# Altium schematic symbol library SparkFun-IC-Power.SCHLIB: 44 symbols
Pins are listed as number, name and electrical type; pins without a type are passive.

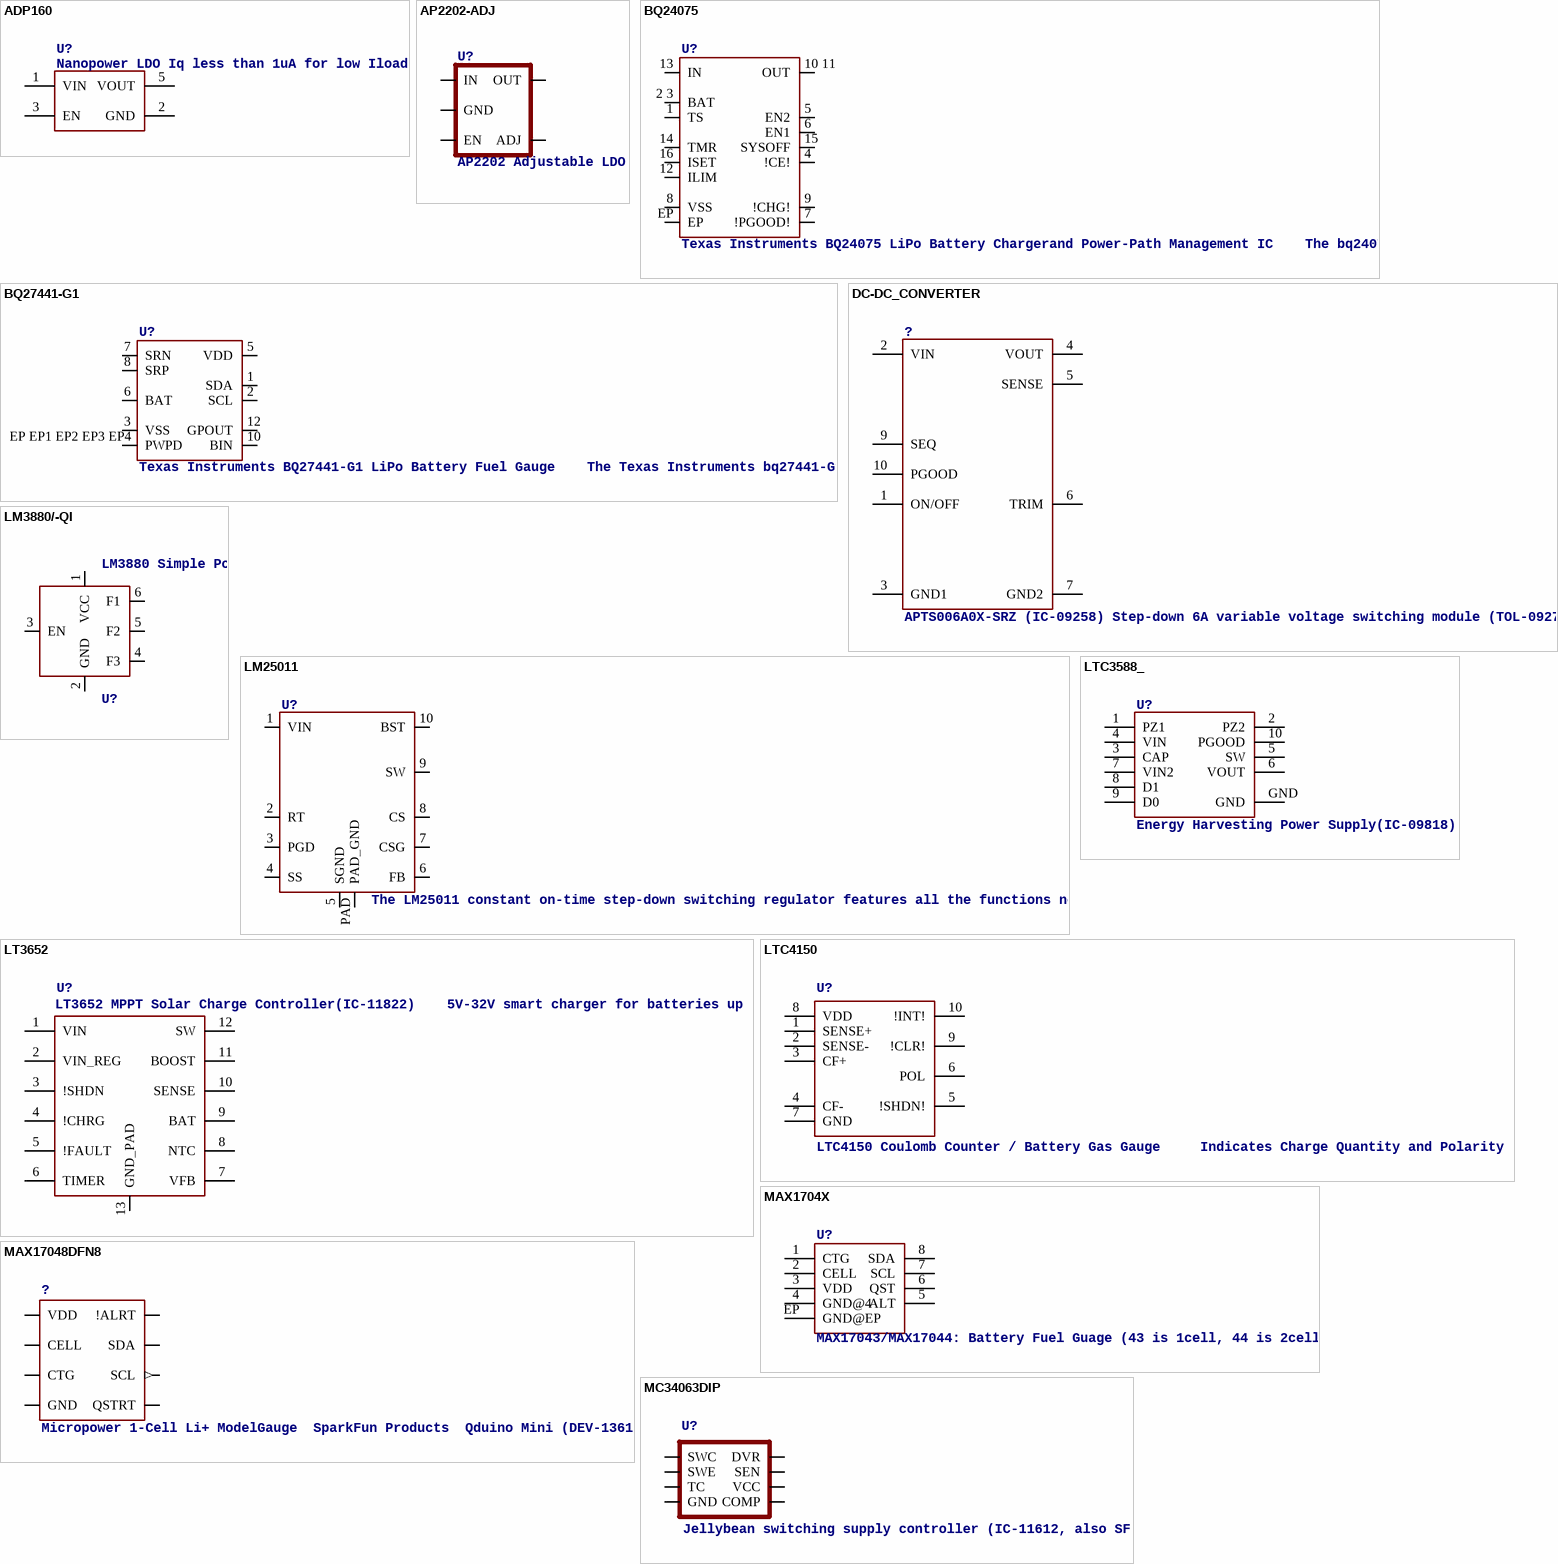
[diagram p0: symbols ADP160 to MC34063DIP]

## ADP160
designator U?, comment Nanopower LDO Iq less than 1uA for low Iload
PROD_ID: VREG-11306
footprint SOT23-5
pins: 1 VIN, 2 GND, 3 EN, 5 VOUT

## AP2202-ADJ
designator U?, comment AP2202 Adjustable LDO Diodes Inc small, low-cost LDO 150mA, 13.2V, less than 200mV dropout
PROD_ID: VREG-12189
footprint SOT23-5
pins: 1 IN, 2 GND, 3 EN, 4 ADJ, 5 OUT

## BQ24075
designator U?, comment Texas Instruments BQ24075 LiPo Battery Chargerand Power-Path Management IC    The bq2407x series of devices are integrated Li-Ion linear chargers and system power path management devices targeted at space-limited portable applications. The devices operate from either a USB port or an AC adapter and support charge currents up to 1.5 A. The input voltage range with input overvoltage protection supports unregulated adapters. The USB input current limit accuracy and start up sequence allow the bq2407x to meet USB-IF inrush current specifications. Additionally, the input dynamic power management (VIN-DPM) prevents the charger from crashing incorrectly configured USB sources.   Datasheet SparkFun Products  SparkFun Battery Babysitter (PRT-13777)
PROD_ID: IC-13219
footprint PVQFN-N16
pins: 1 TS, 2 3 BAT, 4 !CE!, 5 EN2, 6 EN1, 7 !PGOOD!, 8 VSS, 9 !CHG!, 10 11 OUT, 12 ILIM, 13 IN, 14 TMR, 15 SYSOFF, 16 ISET, EP

## BQ27441-G1
designator U?, comment Texas Instruments BQ27441-G1 LiPo Battery Fuel Gauge    The Texas Instruments bq27441-G1 fuel gauge is a microcontroller peripheral that provides system-side fuel gauging for single-cell Li-Ion batteries. The device requires minimal user configuration and system microcontroller firmware development.   The bq27441-G1 battery fuel gauge uses the patented Impedance Track™ algorithm for fuel gauging, and provides information such as remaining battery capacity (mAh), state-of-charge (%), and battery voltage (mV).   Datasheet SparkFun Products  SparkFun Battery Babysitter (PRT-13777)
PROD_ID: IC-13220
footprint PDSO-N12
pins: 1 SDA, 2 SCL, 3 VSS, 5 VDD, 6 BAT, 7 SRN, 8 SRP, 10 BIN, 12 GPOUT, EP EP1 EP2 EP3 EP4 PWPD

## DC-DC_CONVERTER
designator ?, comment APTS006A0X-SRZ (IC-09258) Step-down 6A variable voltage switching module (TOL-09275)
footprint DC-DC_CONVERTER
pins: 1 ON/OFF, 2 VIN, 3 GND1, 4 VOUT, 5 SENSE, 6 TRIM, 7 GND2, 9 SEQ, 10 PGOOD

## LM3880/-QI
designator U?, comment LM3880 Simple Power Sequencer     Precision enable pin & 3 open-drain output flags  Input Voltage Range of 2.7 V to 5.5 V  Power-Up and Power-Down Control  The timing sequence of the LM3880 is controlled entirely by the enable (EN) pin. Upon power up, all the flags are held low until this precision enable is pulled high    LM3880MF-1XY (Timing Designator)  AF: 16ms  AE: 2ms  AA: 10ms  AB: 30ms  AC: 60ms  AD: 120ms        SparkFun Products  SparkFun 6 Degrees of Freedom Breakout - LSM303C (BOB-13303)
PROD_ID: IC-12558
footprint SOT23-6
pins: 1 VCC, 2 GND, 3 EN, 4 F3, 5 F2, 6 F1

## LM25011
designator U?, comment The LM25011 constant on-time step-down switching regulator features all the functions needed to implement a low-cost, efficient, buck bias regulator capable of supplying up to 2 A of load current. This high-voltage regulator contains an N-Channel Buck switch, a startup regulator, current limit detection, and internal ripple control.
PROD_ID: IC-12528
footprint HVSS0P-10
pins: 1 VIN, 2 RT, 3 PGD, 4 SS, 5 SGND, 6 FB, 7 CSG, 8 CS, 9 SW, 10 BST, PAD PAD_GND

## LT3652
designator U?, comment LT3652 MPPT Solar Charge Controller(IC-11822)    5V-32V smart charger for batteries up to 14.4V
footprint MSOP-12_GND
pins: 1 VIN, 2 VIN_REG, 3 !SHDN, 4 !CHRG, 5 !FAULT, 6 TIMER, 7 VFB, 8 NTC, 9 BAT, 10 SENSE, 11 BOOST, 12 SW, 13 GND_PAD

## LTC3588_
designator U?, comment Energy Harvesting Power Supply(IC-09818)
footprint MSOP-10-GNDPAD
pins: 1 PZ1, 2 PZ2, 3 CAP, 4 VIN, 5 SW, 6 VOUT, 7 VIN2, 8 D1, 9 D0, 10 PGOOD, GND

## LTC4150
designator U?, comment LTC4150 Coulomb Counter / Battery Gas Gauge     Indicates Charge Quantity and Polarity  ±50mV Sense Voltage Range  Precision Timer Capacitor or Crystal Not Required  2.7V to 8.5V Operation  High Side Sense  32.55Hz/V Charge Count Frequency  1.5μA Shutdown Current  10-Pin MSOP Package          Datasheet Manufacturer's page: http://www.linear.com/product/LTC4150 SparkFun Products  SparkFun Coulomb Counter Breakout - LTC4150 (BOB-12052)
PROD_ID: IC-11785
footprint MSOP10
pins: 1 SENSE+, 2 SENSE-, 3 CF+, 4 CF-, 5 !SHDN!, 6 POL, 7 GND (power), 8 VDD (power), 9 !CLR!, 10 !INT!

## MAX1704X
designator U?, comment MAX17043/MAX17044: Battery Fuel Guage (43 is 1cell, 44 is 2cell)
PROD-ID: IC-10399
footprint TDFN-8
pins: 1 CTG, 2 CELL, 3 VDD, 4 GND@4, 5 ALT, 6 QST, 7 SCL, 8 SDA, EP GND@EP

## MAX17048DFN8
designator ?, comment Micropower 1-Cell Li+ ModelGauge  SparkFun Products  Qduino Mini (DEV-13614)
PROD_ID: IC-12551
footprint DFN-8
pins: P$1 CTG, P$2 CELL, P$3 VDD, P$4 P$9 GND, P$5 !ALRT, P$6 QSTRT, P$7 SCL (out), P$8 SDA

## MC34063DIP
designator U?, comment Jellybean switching supply controller (IC-11612, also SF)
footprint DIP-08
pins: 1 SWC, 2 SWE, 3 TC, 4 GND, 5 COMP, 6 VCC, 7 SEN, 8 DVR

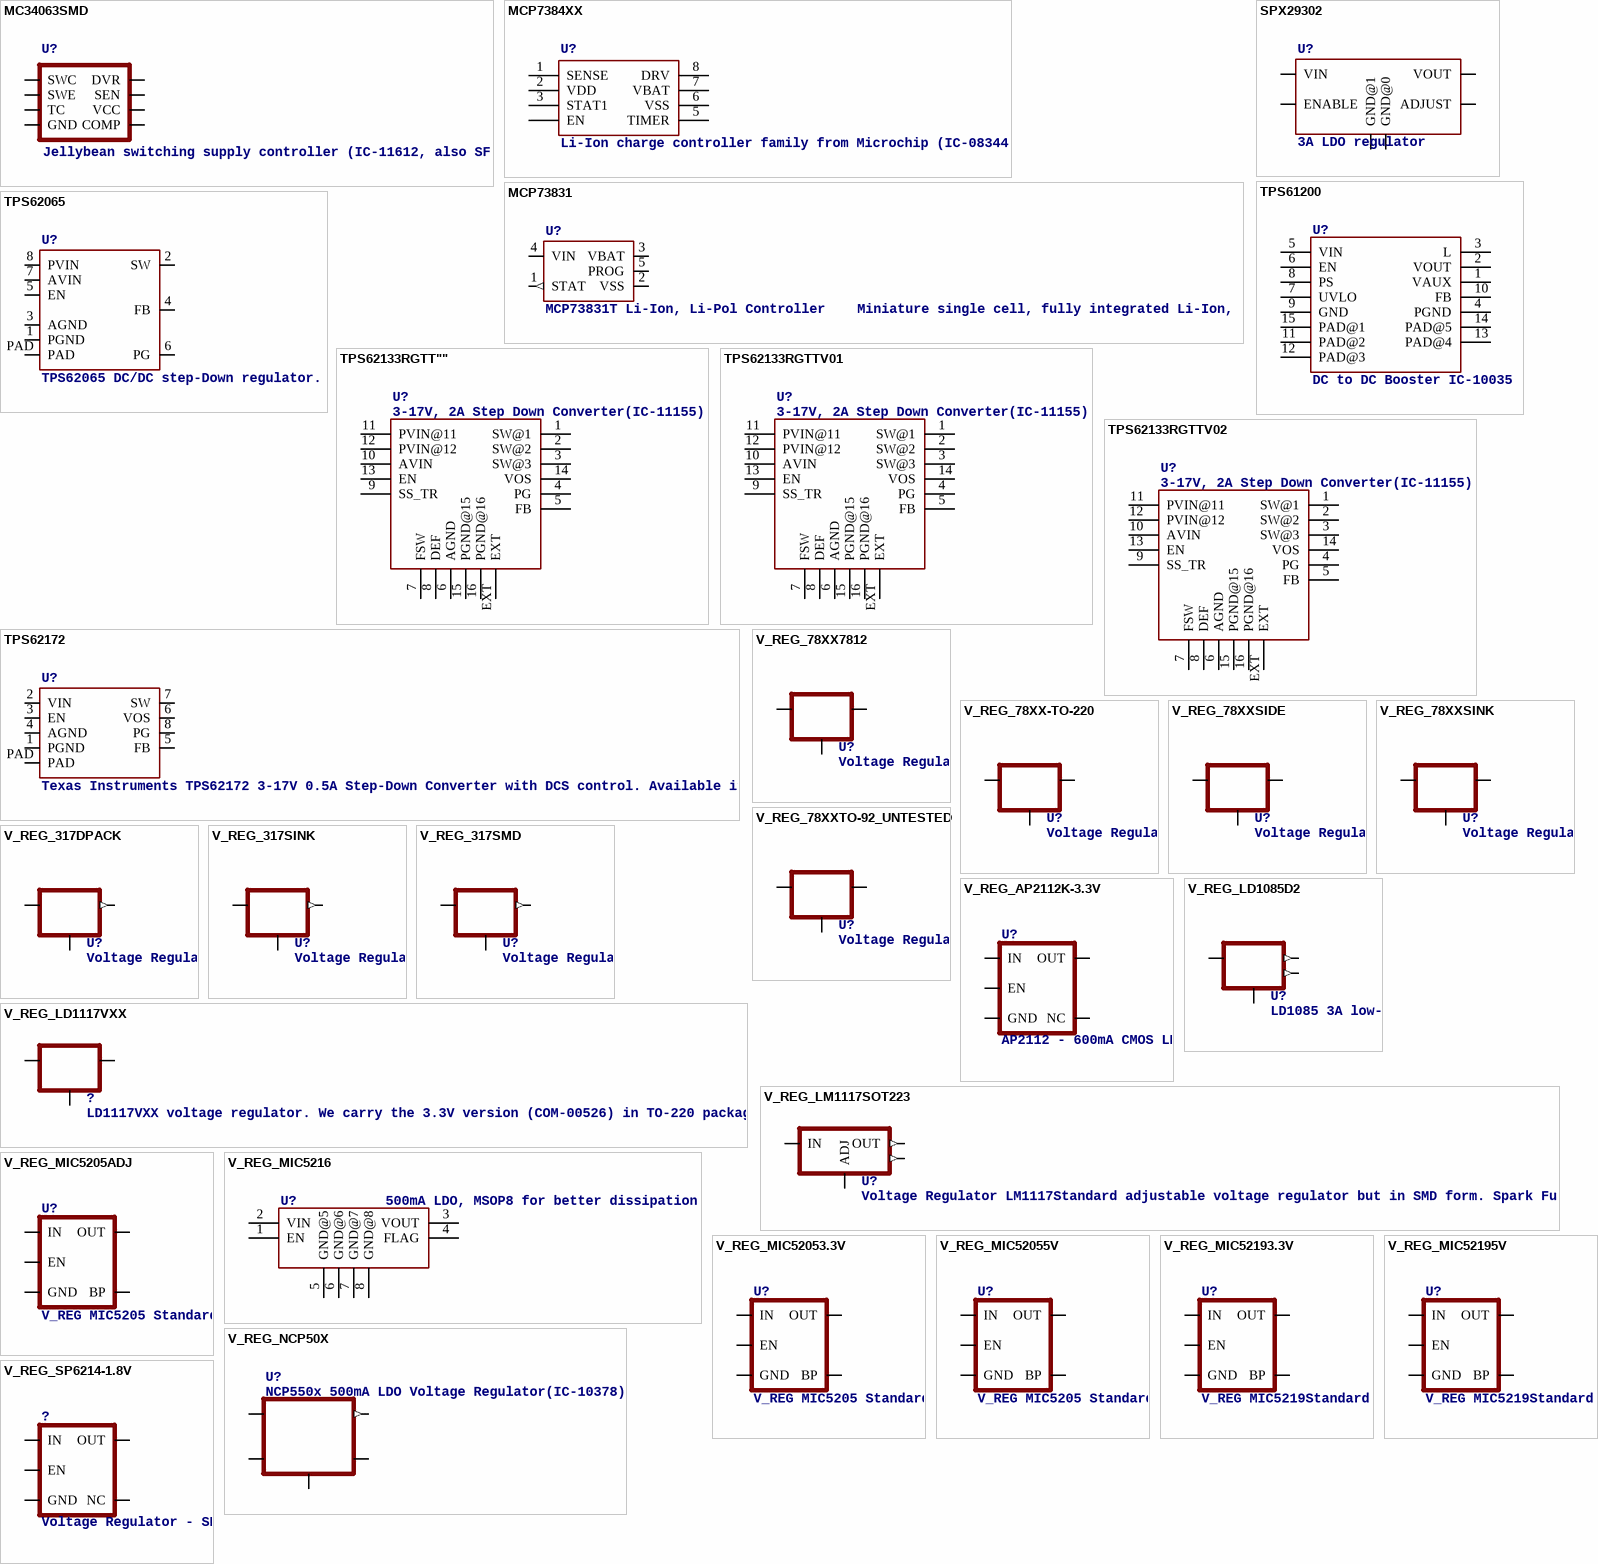
[diagram p1: symbols MC34063SMD to V_REG_SP6214-1.8V]

## MC34063SMD
designator U?, comment Jellybean switching supply controller (IC-11612, also SF)
footprint SO08
pins: 1 SWC, 2 SWE, 3 TC, 4 GND, 5 COMP, 6 VCC, 7 SEN, 8 DVR

## MCP7384XX
designator U?, comment Li-Ion charge controller family from Microchip (IC-08344)
footprint MSOP8
pins: 1 SENSE, 2 VDD, 3 STAT1, 4 EN, 5 TIMER, 6 VSS, 7 VBAT, 8 DRV

## MCP73831
designator U?, comment MCP73831T Li-Ion, Li-Pol Controller    Miniature single cell, fully integrated Li-Ion, Li-polymer charge management controller  Datasheet    SparkFun Products: SparkFun ESP32 Thing  SparkFun 9DoF Razor IMU M0
PROD_ID: IC-09995
footprint SOT23-5
pins: 1 STAT (out), 2 VSS (power), 3 VBAT (power), 4 VIN (power), 5 PROG

## SPX29302
designator U?, comment 3A LDO regulator
PROD_ID: VREG-08337
footprint Q5-DD_SPX29300
pins: 1 ENABLE, 2 VIN, 3 GND@1, 4 VOUT, 5 ADJUST, 6 GND@0

## TPS61200
designator U?, comment DC to DC Booster IC-10035
PROD_ID: IC-10035
footprint QFN-10_PAD
pins: 1 VAUX, 2 VOUT, 3 L, 4 PGND (oe), 5 VIN (oe), 6 EN, 7 UVLO, 8 PS, 9 GND (oe), 10 FB, 11 PAD@2 (oe), 12 PAD@3 (oe), 13 PAD@4 (oe), 14 PAD@5 (oe), 15 PAD@1 (oe)

## TPS62065
designator U?, comment TPS62065 DC/DC step-Down regulator.
PROD_ID: IC-12273
footprint WSON-8-PAD
pins: 1 PGND, 2 SW, 3 AGND, 4 FB, 5 EN, 6 PG, 7 AVIN, 8 PVIN, PAD

## TPS62133RGTT""
designator U?, comment 3-17V, 2A Step Down Converter(IC-11155)
PROD_ID: IC-11155
footprint QFN16-3X3MM_1:1_V03
pins: 1 SW@1, 2 SW@2, 3 SW@3, 4 PG, 5 FB, 6 AGND, 7 FSW, 8 DEF, 9 SS_TR, 10 AVIN, 11 PVIN@11, 12 PVIN@12, 13 EN, 14 VOS, 15 PGND@15, 16 PGND@16, EXT

## TPS62133RGTTV01
designator U?, comment 3-17V, 2A Step Down Converter(IC-11155)
footprint QFN16-3X3MM
pins: 1 SW@1, 2 SW@2, 3 SW@3, 4 PG, 5 FB, 6 AGND, 7 FSW, 8 DEF, 9 SS_TR, 10 AVIN, 11 PVIN@11, 12 PVIN@12, 13 EN, 14 VOS, 15 PGND@15, 16 PGND@16, EXT

## TPS62133RGTTV02
designator U?, comment 3-17V, 2A Step Down Converter(IC-11155)
footprint QFN16-3X3MM_1:1_V02
pins: 1 SW@1, 2 SW@2, 3 SW@3, 4 PG, 5 FB, 6 AGND, 7 FSW, 8 DEF, 9 SS_TR, 10 AVIN, 11 PVIN@11, 12 PVIN@12, 13 EN, 14 VOS, 15 PGND@15, 16 PGND@16, EXT

## TPS62172
designator U?, comment Texas Instruments TPS62172 3-17V 0.5A Step-Down Converter with DCS control. Available in adjustable and fixed output voltage versions.  Is packaged in an 8-pin WSON package measuring 2 × 2 mm (DSG).   See a 3.3V fixed output version of this chip in action on the Electric Imp Breakout Board.  Datasheet
PROD_ID: IC-11307
footprint WSON-8-PAD
pins: 1 PGND, 2 VIN, 3 EN, 4 AGND, 5 FB, 6 VOS, 7 SW, 8 PG, PAD

## V_REG_78XX7812
designator U?, comment Voltage RegulatorStandard 78xx regulator. IGO (Input Ground Output). Spark Fun Electronics SKU : COM-00107
PROD_ID: VREG-12370
footprint TO-252
pins: 1 IN, 2 OUT, 3 GND

## V_REG_78XX-TO-220
designator U?, comment Voltage RegulatorStandard 78xx regulator. IGO (Input Ground Output). Spark Fun Electronics SKU : COM-00107
PROD_ID: VREG-08450; SF_ID: COM-00107
footprint TO-220-ALT
pins: GND, IN, OUT

## V_REG_78XXSIDE
designator U?, comment Voltage RegulatorStandard 78xx regulator. IGO (Input Ground Output). Spark Fun Electronics SKU : COM-00107
footprint 78XXL
pins: GND, IN, OUT

## V_REG_78XXSINK
designator U?, comment Voltage RegulatorStandard 78xx regulator. IGO (Input Ground Output). Spark Fun Electronics SKU : COM-00107
footprint TO220-IGO
pins: GND, IN, OUT

## V_REG_78XXTO-92_UNTESTED
designator U?, comment Voltage RegulatorStandard 78xx regulator. IGO (Input Ground Output). Spark Fun Electronics SKU : COM-00107
footprint TO-92
pins: 1 OUT, 2 GND, 3 IN

## V_REG_317DPACK
designator U?, comment Voltage RegulatorStandard LM317 adjustable voltage regulator. AOI (Adjust Output Input). Google 'LM317 Calculator' for easy to use app to get the two resistor values needed. 240/720 for 5V output. 240/390 for 3.3V output. Spark Fun Electronics SKU : COM-00527
PROD_ID: IC-09888
footprint V-REG_DPACK
pins: 1 ADJ, 3 IN, 4 OUT (out)

## V_REG_317SINK
designator U?, comment Voltage RegulatorStandard LM317 adjustable voltage regulator. AOI (Adjust Output Input). Google 'LM317 Calculator' for easy to use app to get the two resistor values needed. 240/720 for 5V output. 240/390 for 3.3V output. Spark Fun Electronics SKU : COM-00527
footprint TO220-ADJ
pins: ADJ, IN, OUT (out)

## V_REG_317SMD
designator U?, comment Voltage RegulatorStandard LM317 adjustable voltage regulator. AOI (Adjust Output Input). Google 'LM317 Calculator' for easy to use app to get the two resistor values needed. 240/720 for 5V output. 240/390 for 3.3V output. Spark Fun Electronics SKU : COM-00527
footprint SOT223
pins: 1 ADJ, 2 OUT (out), 3 IN

## V_REG_AP2112K-3.3V
designator U?, comment AP2112 - 600mA CMOS LDO Regulator w/ Enable    The AP2112 is CMOS process low dropout linear regulator with enable function, the regulator delivers a guaranteed 600mA (min.) continuous load current.   Features  Output Voltage Accuracy: ±1.5%   Output Current: 600mA (Min.)   Foldback Short Current Protection: 50mA   Enable Function to Turn ON/OFF VOUT  Low Dropout Voltage (3.3V): 250mV (Typ.) @IOUT=600mA   Excellent Load Regulation: 0.2%/A (Typ.)   Excellent Line Regulation: 0.02%/V (Typ.)   Low Quiescent Current: 55μA (Typ.)  Low Standby Current: 0.01μA (Typ.)  Low Output Noise: 50μVRMS   PSRR: 100Hz -65dB, 1kHz -65dB    OTSD Protection   Stable  with  1.0μF Flexible Cap: Ceramic, Tantalum and Aluminum Electrolytic   Operation Temperature Range: -40°C to 85°C   ESD: MM 400V, HBM 4000V
PROD_ID: VREG-12457
footprint SOT23-5
pins: 1 IN, 2 GND, 3 EN, 4 NC, 5 OUT

## V_REG_LD1085D2
designator U?, comment LD1085 3A low-drop positive voltage regulator, adjustable(VREG-10397) The LD1085xx is a low drop voltage regulator able to provide up to 3 A of output current. Dropout is guaranteed at a maximum of 1.2 V at the maximum output current, decreasing at lower loads. The LD1085xx is pin to pin compatible with the older 3-terminal adjustable regulators, but has better performances in term of drop and output tolerance.  Available Packages D2PAK/A - 3-pin w/ tabs, SMD
footprint D2PACK/A
pins: 1 ADJ, 2 OUT (out), 3 IN, TAB OUT@1 (out)

## V_REG_LD1117VXX
designator ?, comment LD1117VXX voltage regulator. We carry the 3.3V version (COM-00526) in TO-220 package.
footprint 78XXL
pins: GND OUT, IN GND, OUT IN

## V_REG_LM1117SOT223
designator U?, comment Voltage Regulator LM1117Standard adjustable voltage regulator but in SMD form. Spark Fun Electronics SKU : COM-00595
PROD_ID: VREG-08170
footprint SOT223
pins: 1 ADJ, 2 OUT (out), 3 IN, 4 OUT@1 (out)

## V_REG_MIC5205ADJ
designator U?, comment V_REG MIC5205 Standard 3.3V, 5V, and Adjustable 150mA LDO voltage regulator in SOT-23 layout. Micrel part MIC5205. BP (by-pass) pin is used to lower output noise with 470pF cap, may be left open. On the adjustable version BP is used to set output.
PROD_ID: VREG-12594
footprint SOT23-5
pins: 1 IN, 2 GND, 3 EN, 4 BP, 5 OUT

## V_REG_MIC5216
designator U?, comment 500mA LDO, MSOP8 for better dissipation
PROD_ID: IC-09527
footprint MSOP8
pins: 1 EN, 2 VIN, 3 VOUT, 4 FLAG, 5 GND@5, 6 GND@6, 7 GND@7, 8 GND@8

## V_REG_MIC52053.3V
designator U?, comment V_REG MIC5205 Standard 3.3V, 5V, and Adjustable 150mA LDO voltage regulator in SOT-23 layout. Micrel part MIC5205. BP (by-pass) pin is used to lower output noise with 470pF cap, may be left open. On the adjustable version BP is used to set output.
PROD_ID: VREG-00822
footprint SOT23-5
pins: 1 IN, 2 GND, 3 EN, 4 BP, 5 OUT

## V_REG_MIC52055V
designator U?, comment V_REG MIC5205 Standard 3.3V, 5V, and Adjustable 150mA LDO voltage regulator in SOT-23 layout. Micrel part MIC5205. BP (by-pass) pin is used to lower output noise with 470pF cap, may be left open. On the adjustable version BP is used to set output.
PROD_ID: VREG-00823
footprint SOT23-5
pins: 1 IN, 2 GND, 3 EN, 4 BP, 5 OUT

## V_REG_MIC52193.3V
designator U?, comment V_REG MIC5219Standard 3.3V and 5V 500mA LDO voltage regulator in SOT-23 layout. Micrel part MIC5219. BP (by-pass) pin is used to lower output noise with 470pF cap, may be left open.
PROD_ID: VREG-09872
footprint SOT23-5
pins: 1 IN, 2 GND, 3 EN, 4 BP, 5 OUT

## V_REG_MIC52195V
designator U?, comment V_REG MIC5219Standard 3.3V and 5V 500mA LDO voltage regulator in SOT-23 layout. Micrel part MIC5219. BP (by-pass) pin is used to lower output noise with 470pF cap, may be left open.
PROD_ID: VREG-10107
footprint SOT23-5
pins: 1 IN, 2 GND, 3 EN, 4 BP, 5 OUT

## V_REG_NCP50X
designator U?, comment NCP550x 500mA LDO Voltage Regulator(IC-10378)
footprint DPAK-5
pins: ADJ, EN, GND, VIN IN, VOUT OUT (out)

## V_REG_SP6214-1.8V
designator ?, comment Voltage Regulator - SP6214    SP6214 Series SC-70-5 Micropower SC-70 100 mA CMOS LDO Regulator  Datasheet   SparkFun Products: MP3 Trigger  SparkFun Particle Sensor Breakout
PROD_ID: VREG-08428
footprint SC70
pins: 1 IN, 2 GND, 3 EN, 4 NC, 5 OUT

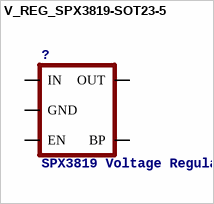
[diagram p2: symbol V_REG_SPX3819-SOT23-5]

## V_REG_SPX3819-SOT23-5
designator ?, comment SPX3819 Voltage Regulator     3.3V 500mA, 16V input   Datasheet   SparkFun Products: SparkFun Serial Controlled Motor Driver
PROD_ID: VREG-13321
footprint SOT23-5
pins: 1 IN, 2 GND, 3 EN, 4 BP, 5 OUT